# Altium footprint library SK14D01G6.PcbLib: 1 footprints
Each footprint in its own frame and in the unit in brackets; x right, y up, seen from the top. Pads: shape width x height; smd on the part's side, far side on the other; paste and mask are expansions set on the pad; w line width, h text height; cw(c..) or ccw(c..) is an arc to the next point about the centre after c.
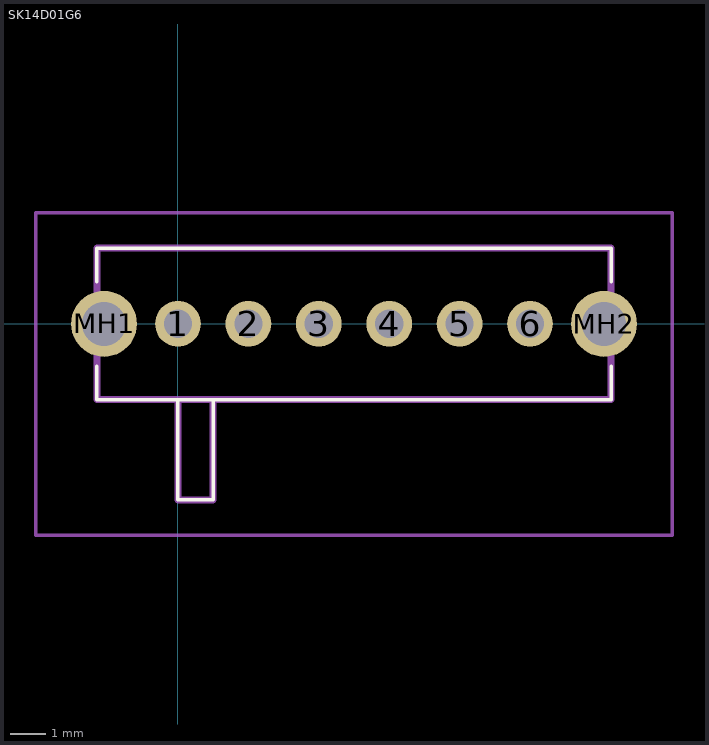
[diagram p0: the footprint, top view; thin cyan lines are the x and y axes]

## SK14D01G6 [mm]
pads (8):
  round 1.3 hole 0.8: 1(0,0) 2(2,0) 3(4,0) 4(6,0) 5(8,0) 6(10,0)
  round 1.875 hole 1.25: MH1(-2.1,0) MH2(12.1,0)
Top Overlay:
  lines w0.1: -2.3,-1.2 -2.3,-2.15 12.3,-2.15 12.3,-1.2 ; -2.3,1.2 -2.3,2.15 12.3,2.15 12.3,1.2 ; 0,-2.2 0,-5 1,-5 1,-2.15
Mechanical 15:
  lines w0.2: 0,-2.15 0,-5 1,-5 1,-2.15 ; -2.3,-2.15 12.3,-2.15 12.3,2.15 -2.3,2.15 -2.3,-2.15
Mechanical 20:
  lines w0.1: -4.037,-6 14.037,-6 14.037,3.15 -4.037,3.15 -4.037,-6